# Altium footprint library Power Management DC-DC Conversion.PcbLib: 98 footprints (part 1 of 7)
Each footprint in its own frame and in the unit in brackets; x right, y up, seen from the top. Pads: shape width x height; smd on the part's side, far side on the other; paste and mask are expansions set on the pad; w line width, h text height; cw(c..) or ccw(c..) is an arc to the next point about the centre after c.
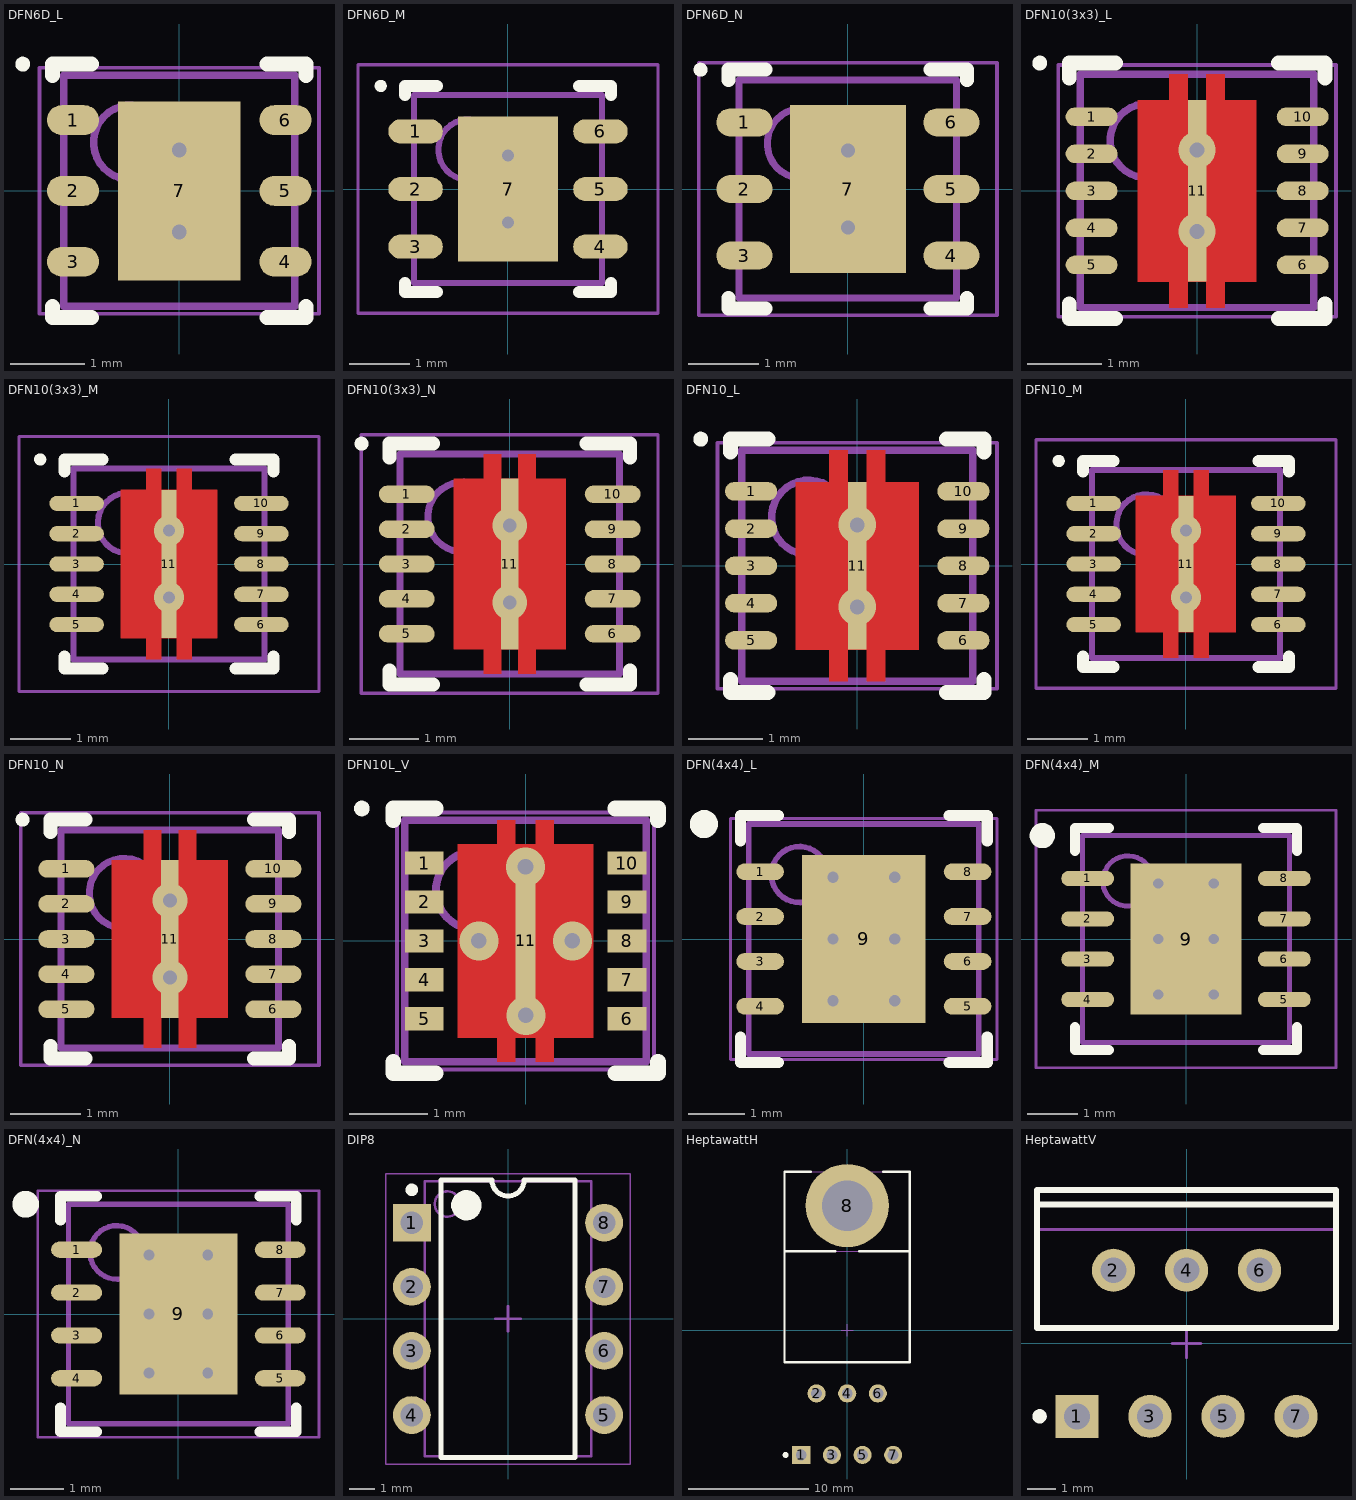
[diagram p0: the footprints below, top view; thin cyan lines are the x and y axes]

## DFN6D_L [mm] "SON, 6-Leads, Body 3x3mm, Pitch 0.95mm, Thermal Pad 2.4x1.65mm, IPC High Density"
height 0.95
pads (7):
  oval 0.7x0.4 smd: 1(-1.425,0.95) 2(-1.425,0) 3(-1.425,-0.95) 4(1.425,-0.95) 5(1.425,0) 6(1.425,0.95)
  rect 1.65x2.4 smd: 7(0,0)
via 0,-0.55 diameter 0.5 hole 0.2
via 0,0.55 diameter 0.5 hole 0.2
Top Overlay:
  circle w0.1: c-2.1,1.7 r0.05
  lines w0.2: -1.7,-1.55 -1.7,-1.7 -1.175,-1.7 ; -1.7,1.55 -1.7,1.7 -1.175,1.7 ; 1.175,-1.7 1.7,-1.7 1.7,-1.55 ; 1.175,1.7 1.7,1.7 1.7,1.55
Mechanical 13:
  circle w0.1: c-0.65,0.65 r0.5
  lines w0.1: -1.55,-1.55 1.55,-1.55 1.55,1.55 -1.55,1.55 -1.55,-1.55
Mechanical 15:
  lines w0.05: -1.875,-1.65 1.875,-1.65 1.875,1.65 -1.875,1.65 -1.875,-1.65
  lines w0.1: -0.5,0 0.5,0 ; 0,-0.5 0,0.5
3D body: height 0.95, standoff 0, extent -1.55,-1.55 1.55,1.55

## DFN6D_M [mm] "SON, 6-Leads, Body 3x3mm, Pitch 0.95mm, Thermal Pad 2.4x1.65mm, IPC Low Density"
height 0.95
pads (7):
  oval 0.9x0.4 smd: 1(-1.525,0.95) 2(-1.525,0) 3(-1.525,-0.95) 4(1.525,-0.95) 5(1.525,0) 6(1.525,0.95)
  rect 1.65x2.4 smd: 7(0,0)
via 0,0.55 diameter 0.5 hole 0.2
via 0,-0.55 diameter 0.5 hole 0.2
Top Overlay:
  circle w0.1: c-2.1,1.7 r0.05
  lines w0.2: -1.7,-1.55 -1.7,-1.7 -1.175,-1.7 ; -1.7,1.55 -1.7,1.7 -1.175,1.7 ; 1.175,-1.7 1.7,-1.7 1.7,-1.55 ; 1.175,1.7 1.7,1.7 1.7,1.55
Mechanical 13:
  circle w0.1: c-0.65,0.65 r0.5
  lines w0.1: -1.55,-1.55 -1.55,1.55 1.55,1.55 1.55,-1.55 -1.55,-1.55
Mechanical 15:
  lines w0.05: -2.475,-2.05 -2.475,2.05 2.475,2.05 2.475,-2.05 -2.475,-2.05
  lines w0.1: -0.5,0 0.5,0 ; 0,-0.5 0,0.5
3D body: height 0.95, standoff 0, extent -1.55,-1.55 1.55,1.55

## DFN6D_N [mm] "SON, 6-Leads, Body 3x3mm, Pitch 0.95mm, Thermal Pad 2.4x1.65mm, IPC Medium Density"
height 0.95
pads (7):
  oval 0.8x0.4 smd: 1(-1.475,0.95) 2(-1.475,0) 3(-1.475,-0.95) 4(1.475,-0.95) 5(1.475,0) 6(1.475,0.95)
  rect 1.65x2.4 smd: 7(0,0)
via 0,0.55 diameter 0.5 hole 0.2
via 0,-0.55 diameter 0.5 hole 0.2
Top Overlay:
  circle w0.1: c-2.1,1.7 r0.05
  lines w0.2: -1.7,-1.55 -1.7,-1.7 -1.175,-1.7 ; -1.7,1.55 -1.7,1.7 -1.175,1.7 ; 1.175,-1.7 1.7,-1.7 1.7,-1.55 ; 1.175,1.7 1.7,1.7 1.7,1.55
Mechanical 13:
  circle w0.1: c-0.65,0.65 r0.5
  lines w0.1: -1.55,-1.55 -1.55,1.55 1.55,1.55 1.55,-1.55 -1.55,-1.55
Mechanical 15:
  lines w0.05: -2.125,-1.8 -2.125,1.8 2.125,1.8 2.125,-1.8 -2.125,-1.8
  lines w0.1: -0.5,0 0.5,0 ; 0,-0.5 0,0.5
3D body: height 0.95, standoff 0, extent -1.55,-1.55 1.55,1.55

## DFN10(3x3)_L [mm] "SON, 10-Leads, Body 3x3mm, Pitch 0.5mm, Thermal Pad 2.45x1.6mm, IPC High Density"
height 1
pads (11):
  oval 0.7x0.25 smd: 1(-1.425,1) 2(-1.425,0.5) 3(-1.425,0) 4(-1.425,-0.5) 5(-1.425,-1) 6(1.425,-1) 7(1.425,-0.5) 8(1.425,0) 9(1.425,0.5) 10(1.425,1)
  rect 0.25x2.45 smd paste+0 mask+0: 11(0,0)
via 0,0.55 diameter 0.5 hole 0.2
via 0,-0.55 diameter 0.5 hole 0.2
Top Layer:
  region: -0.8,-1.225 -0.375,-1.225 -0.375,-1.575 -0.125,-1.575 -0.125,-1.225 0.125,-1.225 0.125,-1.575 0.375,-1.575 0.375,-1.225 0.8,-1.225 0.8,1.225 0.375,1.225 0.375,1.575 0.125,1.575 0.125,1.225 -0.125,1.225 -0.125,1.575 -0.375,1.575 -0.375,1.225 -0.8,1.225
Top Overlay:
  circle w0.1: c-2.125,1.725 r0.05
  lines w0.2: -1.725,-1.525 -1.725,-1.725 -1.1,-1.725 ; -1.725,1.525 -1.725,1.725 -1.1,1.725 ; 1.1,-1.725 1.725,-1.725 1.725,-1.525 ; 1.1,1.725 1.725,1.725 1.725,1.525
Mechanical 13:
  circle w0.1: c-0.675,0.675 r0.5
  lines w0.1: -1.575,-1.575 -1.575,1.575 1.575,1.575 1.575,-1.575 -1.575,-1.575
Mechanical 15:
  lines w0.05: -1.875,-1.7 -1.875,1.7 1.875,1.7 1.875,-1.7 -1.875,-1.7
  lines w0.1: -0.5,0 0.5,0 ; 0,-0.5 0,0.5
3D body: height 1, standoff 0, extent -1.575,-1.575 1.575,1.575

## DFN10(3x3)_M [mm] "SON, 10-Leads, Body 3x3mm, Pitch 0.5mm, Thermal Pad 2.45x1.6mm, IPC Low Density"
height 1
pads (11):
  oval 0.9x0.25 smd: 1(-1.525,1) 2(-1.525,0.5) 3(-1.525,0) 4(-1.525,-0.5) 5(-1.525,-1) 6(1.525,-1) 7(1.525,-0.5) 8(1.525,0) 9(1.525,0.5) 10(1.525,1)
  rect 0.25x2.45 smd paste+0 mask+0: 11(0,0)
via 0,0.55 diameter 0.5 hole 0.2
via 0,-0.55 diameter 0.5 hole 0.2
Top Layer:
  region: -0.8,-1.225 -0.375,-1.225 -0.375,-1.575 -0.125,-1.575 -0.125,-1.225 0.125,-1.225 0.125,-1.575 0.375,-1.575 0.375,-1.225 0.8,-1.225 0.8,1.225 0.375,1.225 0.375,1.575 0.125,1.575 0.125,1.225 -0.125,1.225 -0.125,1.575 -0.375,1.575 -0.375,1.225 -0.8,1.225
Top Overlay:
  circle w0.1: c-2.125,1.725 r0.05
  lines w0.2: -1.725,-1.525 -1.725,-1.725 -1.1,-1.725 ; -1.725,1.525 -1.725,1.725 -1.1,1.725 ; 1.1,-1.725 1.725,-1.725 1.725,-1.525 ; 1.1,1.725 1.725,1.725 1.725,1.525
Mechanical 13:
  circle w0.1: c-0.675,0.675 r0.5
  lines w0.1: -1.575,-1.575 -1.575,1.575 1.575,1.575 1.575,-1.575 -1.575,-1.575
Mechanical 15:
  lines w0.05: -2.475,-2.1 -2.475,2.1 2.475,2.1 2.475,-2.1 -2.475,-2.1
  lines w0.1: -0.5,0 0.5,0 ; 0,-0.5 0,0.5
3D body: height 1, standoff 0, extent -1.575,-1.575 1.575,1.575

## DFN10(3x3)_N [mm] "SON, 10-Leads, Body 3x3mm, Pitch 0.5mm, Thermal Pad 2.45x1.6mm, IPC Medium Density"
height 1
pads (11):
  oval 0.8x0.25 smd: 1(-1.475,1) 2(-1.475,0.5) 3(-1.475,0) 4(-1.475,-0.5) 5(-1.475,-1) 6(1.475,-1) 7(1.475,-0.5) 8(1.475,0) 9(1.475,0.5) 10(1.475,1)
  rect 0.25x2.45 smd paste+0 mask+0: 11(0,0)
via 0,0.55 diameter 0.5 hole 0.2
via 0,-0.55 diameter 0.5 hole 0.2
Top Layer:
  region: -0.8,-1.225 -0.375,-1.225 -0.375,-1.575 -0.125,-1.575 -0.125,-1.225 0.125,-1.225 0.125,-1.575 0.375,-1.575 0.375,-1.225 0.8,-1.225 0.8,1.225 0.375,1.225 0.375,1.575 0.125,1.575 0.125,1.225 -0.125,1.225 -0.125,1.575 -0.375,1.575 -0.375,1.225 -0.8,1.225
Top Overlay:
  circle w0.1: c-2.125,1.725 r0.05
  lines w0.2: -1.725,-1.525 -1.725,-1.725 -1.1,-1.725 ; -1.725,1.525 -1.725,1.725 -1.1,1.725 ; 1.1,-1.725 1.725,-1.725 1.725,-1.525 ; 1.1,1.725 1.725,1.725 1.725,1.525
Mechanical 13:
  circle w0.1: c-0.675,0.675 r0.5
  lines w0.1: -1.575,-1.575 -1.575,1.575 1.575,1.575 1.575,-1.575 -1.575,-1.575
Mechanical 15:
  lines w0.05: -2.125,-1.85 -2.125,1.85 2.125,1.85 2.125,-1.85 -2.125,-1.85
  lines w0.1: -0.5,0 0.5,0 ; 0,-0.5 0,0.5
3D body: height 1, standoff 0, extent -1.575,-1.575 1.575,1.575

## DFN10_L [mm] "SON, 10-Leads, Body 3x3mm, Pitch 0.5mm, Thermal Pad 2.25x1.6mm, IPC High Density"
height 1
pads (11):
  oval 0.7x0.25 smd: 1(-1.425,1) 2(-1.425,0.5) 3(-1.425,0) 4(-1.425,-0.5) 5(-1.425,-1) 6(1.425,-1) 7(1.425,-0.5) 8(1.425,0) 9(1.425,0.5) 10(1.425,1)
  rect 0.25x2.25 smd paste+0 mask+0: 11(0,0)
via 0,0.55 diameter 0.5 hole 0.2
via 0,-0.55 diameter 0.5 hole 0.2
Top Layer:
  region: -0.375,-1.55 -0.375,-1.125 -0.825,-1.125 -0.825,1.125 -0.375,1.125 -0.375,1.55 -0.125,1.55 -0.125,1.125 0.125,1.125 0.125,1.55 0.375,1.55 0.375,1.125 0.825,1.125 0.825,-1.125 0.375,-1.125 0.375,-1.55 0.125,-1.55 0.125,-1.125 -0.125,-1.125 -0.125,-1.55
Top Overlay:
  circle w0.1: c-2.1,1.7 r0.05
  lines w0.2: -1.7,-1.525 -1.7,-1.7 -1.2,-1.7 ; -1.7,1.525 -1.7,1.7 -1.2,1.7 ; 1.2,-1.7 1.7,-1.7 1.7,-1.525 ; 1.2,1.7 1.7,1.7 1.7,1.525
Mechanical 13:
  circle w0.1: c-0.65,0.65 r0.5
  lines w0.1: -1.55,-1.55 -1.55,1.55 1.55,1.55 1.55,-1.55 -1.55,-1.55
Mechanical 15:
  lines w0.05: -1.875,-1.65 -1.875,1.65 1.875,1.65 1.875,-1.65 -1.875,-1.65
  lines w0.1: -0.5,0 0.5,0 ; 0,-0.5 0,0.5
3D body: height 1, standoff 0, extent -1.55,-1.55 1.55,1.55

## DFN10_M [mm] "SON, 10-Leads, Body 3x3mm, Pitch 0.5mm, Thermal Pad 2.25x1.6mm, IPC Low Density"
height 1
pads (11):
  oval 0.9x0.25 smd: 1(-1.525,1) 2(-1.525,0.5) 3(-1.525,0) 4(-1.525,-0.5) 5(-1.525,-1) 6(1.525,-1) 7(1.525,-0.5) 8(1.525,0) 9(1.525,0.5) 10(1.525,1)
  rect 0.25x2.25 smd paste+0 mask+0: 11(0,0)
via 0,0.55 diameter 0.5 hole 0.2
via 0,-0.55 diameter 0.5 hole 0.2
Top Layer:
  region: -0.375,-1.55 -0.375,-1.125 -0.825,-1.125 -0.825,1.125 -0.375,1.125 -0.375,1.55 -0.125,1.55 -0.125,1.125 0.125,1.125 0.125,1.55 0.375,1.55 0.375,1.125 0.825,1.125 0.825,-1.125 0.375,-1.125 0.375,-1.55 0.125,-1.55 0.125,-1.125 -0.125,-1.125 -0.125,-1.55
Top Overlay:
  circle w0.1: c-2.1,1.7 r0.05
  lines w0.2: -1.7,-1.525 -1.7,-1.7 -1.2,-1.7 ; -1.7,1.525 -1.7,1.7 -1.2,1.7 ; 1.2,-1.7 1.7,-1.7 1.7,-1.525 ; 1.2,1.7 1.7,1.7 1.7,1.525
Mechanical 13:
  circle w0.1: c-0.65,0.65 r0.5
  lines w0.1: -1.55,-1.55 -1.55,1.55 1.55,1.55 1.55,-1.55 -1.55,-1.55
Mechanical 15:
  lines w0.05: -2.475,-2.05 -2.475,2.05 2.475,2.05 2.475,-2.05 -2.475,-2.05
  lines w0.1: -0.5,0 0.5,0 ; 0,-0.5 0,0.5
3D body: height 1, standoff 0, extent -1.55,-1.55 1.55,1.55

## DFN10_N [mm] "SON, 10-Leads, Body 3x3mm, Pitch 0.5mm, Thermal Pad 2.25x1.6mm, IPC Medium Density"
height 1
pads (11):
  oval 0.8x0.25 smd: 1(-1.475,1) 2(-1.475,0.5) 3(-1.475,0) 4(-1.475,-0.5) 5(-1.475,-1) 6(1.475,-1) 7(1.475,-0.5) 8(1.475,0) 9(1.475,0.5) 10(1.475,1)
  rect 0.25x2.25 smd paste+0 mask+0: 11(0,0)
via 0,-0.55 diameter 0.5 hole 0.2
via 0,0.55 diameter 0.5 hole 0.2
Top Layer:
  region: -0.375,-1.55 -0.375,-1.125 -0.825,-1.125 -0.825,1.125 -0.375,1.125 -0.375,1.55 -0.125,1.55 -0.125,1.125 0.125,1.125 0.125,1.55 0.375,1.55 0.375,1.125 0.825,1.125 0.825,-1.125 0.375,-1.125 0.375,-1.55 0.125,-1.55 0.125,-1.125 -0.125,-1.125 -0.125,-1.55
Top Overlay:
  circle w0.1: c-2.1,1.7 r0.05
  lines w0.2: -1.7,-1.525 -1.7,-1.7 -1.2,-1.7 ; -1.7,1.525 -1.7,1.7 -1.2,1.7 ; 1.2,-1.7 1.7,-1.7 1.7,-1.525 ; 1.2,1.7 1.7,1.7 1.7,1.525
Mechanical 13:
  circle w0.1: c-0.65,0.65 r0.5
  lines w0.1: -1.55,-1.55 1.55,-1.55 1.55,1.55 -1.55,1.55 -1.55,-1.55
Mechanical 15:
  lines w0.05: -2.125,-1.8 2.125,-1.8 2.125,1.8 -2.125,1.8 -2.125,-1.8
  lines w0.1: -0.5,0 0.5,0 ; 0,-0.5 0,0.5
3D body: height 1, standoff 0, extent -1.55,-1.55 1.55,1.55

## DFN10L_V [mm] "SON, 10-Leads, Body 3x3 mm, Pitch 0.5mm, Thermal Pad 2.48x1.74mm, ST Recommended"
height 0.8
pads (11):
  rect 0.5x0.3 smd: 1(-1.3,1) 2(-1.3,0.5) 3(-1.3,0) 4(-1.3,-0.5) 5(-1.3,-1) 6(1.3,-1) 7(1.3,-0.5) 8(1.3,0) 9(1.3,0.5) 10(1.3,1)
  rect 0.26x1.6 smd paste+0 mask+0: 11(0,0)
via 0.005,-0.954 diameter 0.5 hole 0.2
via 0,0.95 diameter 0.5 hole 0.2
via 0.6,0 diameter 0.5 hole 0.2
via -0.6,0 diameter 0.5 hole 0.2
Top Layer:
  region: -0.36,-1.55 -0.36,-1.24 -0.87,-1.24 -0.87,1.24 -0.36,1.24 -0.36,1.55 -0.13,1.55 -0.13,1.24 0.13,1.24 0.13,1.55 0.36,1.55 0.36,1.24 0.87,1.24 0.87,-1.24 0.36,-1.24 0.36,-1.55 0.13,-1.55 0.13,-1.24 -0.13,-1.24 -0.13,-1.55
Top Overlay:
  circle w0.1: c-2.1,1.7 r0.05
  lines w0.2: -1.7,-1.55 -1.7,-1.7 -1.15,-1.7 ; -1.7,1.55 -1.7,1.7 -1.15,1.7 ; 1.15,-1.7 1.7,-1.7 1.7,-1.55 ; 1.15,1.7 1.7,1.7 1.7,1.55
Mechanical 13:
  circle w0.1: c-0.65,0.65 r0.5
  lines w0.1: -1.55,-1.55 -1.55,1.55 1.55,1.55 1.55,-1.55 -1.55,-1.55
Mechanical 15:
  lines w0.05: -1.65,-1.65 -1.65,1.65 1.65,1.65 1.65,-1.65 -1.65,-1.65
  lines w0.1: -0.5,0 0.5,0 ; 0,-0.5 0,0.5
3D body: height 0.8, standoff 0, extent -1.55,-1.55 1.55,1.55

## DFN(4x4)_L [mm] "SON, 8-Leads, Body 4x4mm, Pitch 0.8mm, Thermal Pad 3x2.2mm, IPC High Density"
height 1
pads (9):
  oval 0.85x0.3 smd: 1(-1.85,1.2) 2(-1.85,0.4) 3(-1.85,-0.4) 4(-1.85,-1.2) 5(1.85,-1.2) 6(1.85,-0.4) 7(1.85,0.4) 8(1.85,1.2)
  rect 2.2x3 smd: 9(0,0)
via -0.55,1.1 diameter 0.5 hole 0.2
via 0.55,1.1 diameter 0.5 hole 0.2
via -0.55,0 diameter 0.5 hole 0.2
via 0.55,0 diameter 0.5 hole 0.2
via -0.55,-1.1 diameter 0.5 hole 0.2
via 0.55,-1.1 diameter 0.5 hole 0.2
Top Overlay:
  circle w0.25: c-2.85,2.05 r0.125
  lines w0.2: -2.2,-1.75 -2.2,-2.2 -1.525,-2.2 ; -2.2,1.75 -2.2,2.2 -1.525,2.2 ; 1.525,-2.2 2.2,-2.2 2.2,-1.75 ; 1.525,2.2 2.2,2.2 2.2,1.75
Mechanical 13:
  circle w0.1: c-1.15,1.15 r0.5
  lines w0.1: -2.05,-2.05 -2.05,2.05 2.05,2.05 2.05,-2.05 -2.05,-2.05
Mechanical 15:
  lines w0.05: -2.375,-2.15 -2.375,2.15 2.375,2.15 2.375,-2.15 -2.375,-2.15
  lines w0.1: -0.5,0 0.5,0 ; 0,-0.5 0,0.5
3D body: height 1, standoff 0, extent -2.05,-2.05 2.05,2.05

## DFN(4x4)_M [mm] "SON, 8-Leads, Body 4x4mm, Pitch 0.8mm, Thermal Pad 3x2.2mm, IPC Low Density"
height 1
pads (9):
  oval 1.05x0.3 smd: 1(-1.95,1.2) 2(-1.95,0.4) 3(-1.95,-0.4) 4(-1.95,-1.2) 5(1.95,-1.2) 6(1.95,-0.4) 7(1.95,0.4) 8(1.95,1.2)
  rect 2.2x3 smd: 9(0,0)
via 0.55,-1.1 diameter 0.5 hole 0.2
via -0.55,-1.1 diameter 0.5 hole 0.2
via 0.55,0 diameter 0.5 hole 0.2
via -0.55,0 diameter 0.5 hole 0.2
via 0.55,1.1 diameter 0.5 hole 0.2
via -0.55,1.1 diameter 0.5 hole 0.2
Top Overlay:
  circle w0.25: c-2.85,2.05 r0.125
  lines w0.2: -2.2,-1.75 -2.2,-2.2 -1.525,-2.2 ; -2.2,1.75 -2.2,2.2 -1.525,2.2 ; 1.525,-2.2 2.2,-2.2 2.2,-1.75 ; 1.525,2.2 2.2,2.2 2.2,1.75
Mechanical 13:
  circle w0.1: c-1.15,1.15 r0.5
  lines w0.1: -2.05,-2.05 2.05,-2.05 2.05,2.05 -2.05,2.05 -2.05,-2.05
Mechanical 15:
  lines w0.05: -2.975,-2.55 2.975,-2.55 2.975,2.55 -2.975,2.55 -2.975,-2.55
  lines w0.1: -0.5,0 0.5,0 ; 0,-0.5 0,0.5
3D body: height 1, standoff 0, extent -2.05,-2.05 2.05,2.05

## DFN(4x4)_N [mm] "SON, 8-Leads, Body 4x4mm, Pitch 0.8mm, Thermal Pad 3x2.2mm, IPC Medium Density"
height 1
pads (9):
  oval 0.95x0.3 smd: 1(-1.9,1.2) 2(-1.9,0.4) 3(-1.9,-0.4) 4(-1.9,-1.2) 5(1.9,-1.2) 6(1.9,-0.4) 7(1.9,0.4) 8(1.9,1.2)
  rect 2.2x3 smd: 9(0,0)
via 0.55,-1.1 diameter 0.5 hole 0.2
via -0.55,-1.1 diameter 0.5 hole 0.2
via 0.55,0 diameter 0.5 hole 0.2
via -0.55,0 diameter 0.5 hole 0.2
via 0.55,1.1 diameter 0.5 hole 0.2
via -0.55,1.1 diameter 0.5 hole 0.2
Top Overlay:
  circle w0.25: c-2.85,2.05 r0.125
  lines w0.2: -2.2,-1.75 -2.2,-2.2 -1.525,-2.2 ; -2.2,1.75 -2.2,2.2 -1.525,2.2 ; 1.525,-2.2 2.2,-2.2 2.2,-1.75 ; 1.525,2.2 2.2,2.2 2.2,1.75
Mechanical 13:
  circle w0.1: c-1.15,1.15 r0.5
  lines w0.1: -2.05,-2.05 2.05,-2.05 2.05,2.05 -2.05,2.05 -2.05,-2.05
Mechanical 15:
  lines w0.05: -2.625,-2.3 2.625,-2.3 2.625,2.3 -2.625,2.3 -2.625,-2.3
  lines w0.1: -0.5,0 0.5,0 ; 0,-0.5 0,0.5
3D body: height 1, standoff 0, extent -2.05,-2.05 2.05,2.05

## DIP8 [mm] "DIP, 8-Leads, Row Spacing 7.62mm, Pitch 2.54mm, Body 9.9x6.4mm"
height 5.08
pads (8):
  rect 1.5x1.5 hole 0.9: 1(-3.81,3.81)
  round 1.5 hole 0.9: 2(-3.81,1.27) 3(-3.81,-1.27) 4(-3.81,-3.81) 5(3.81,-3.81) 6(3.81,-1.27) 7(3.81,1.27) 8(3.81,3.81)
Top Overlay:
  circle w0.6: c-1.65,4.5 r0.3
  circle w0.25: c-3.81,5.11 r0.125
  lines w0.2: -2.65,-5.5 2.65,-5.5 2.65,5.5 0.635,5.5 cw(c0,5.5) -0.635,5.5 -2.65,5.5 -2.65,-5.5
Mechanical 13:
  circle w0.1: c-2.4,4.55 r0.5
  lines w0.1: -3.3,-5.45 3.3,-5.45 3.3,5.45 -3.3,5.45 -3.3,-5.45
Mechanical 15:
  lines w0.05: -4.85,-5.75 4.85,-5.75 4.85,5.75 -4.85,5.75 -4.85,-5.75
  lines w0.1: -0.5,0 0.5,0 ; 0,-0.5 0,0.5
3D body: height 5.08, standoff 0.51, extent -3.3,-5.45 3.3,5.45

## HeptawattH [mm] "TO, Thru-Hole, Horizontal, Heatsink Mounted; 7 Bent Staggered Lead; Body 10.2x9.2x4.6mm, Pitch 1.27 mm"
height 4.8
pads (8):
  rect 1.5x1.5 hole 0.9: 1(-3.81,-10.34)
  round 1.5 hole 0.9: 2(-2.54,-5.24) 3(-1.27,-10.34) 4(0,-5.24) 5(1.27,-10.34) 6(2.54,-5.24) 7(3.81,-10.34)
  round 6.9 hole 4.2: 8(0,10.34)
Top Overlay:
  circle w0.25: c-5.11,-10.34 r0.125
  lines w0.2: -5.2,6.54 -1,6.54 ; -3,13.14 -5.2,13.14 -5.2,-2.66 5.2,-2.66 5.2,13.14 3,13.14 ; 1,6.54 5.2,6.54
Mechanical 13:
  circle w0.1: c0.003,10.314 r1.925
  lines w0.1: -5.2,6.54 5.2,6.54 ; -5.2,-2.66 -5.2,13.14 5.2,13.14 5.2,-2.66 -5.2,-2.66
Mechanical 15:
  lines w0.1: -0.5,0 0.5,0 ; 0,-0.5 0,0.5
3D body: height 1.37, standoff 0, extent -5.199,6.541 5.199,13.139
3D body: height 1.37, standoff 0, extent -1.921,8.39 1.927,12.238
3D body: height 4.8, standoff 0, extent -5.199,-2.659 5.199,6.539

## HeptawattV [mm] "TO, Thru-Hole, Vertical, Heatsink Mounted; 7 Bent Staggered Leads; Body 10.2x9.2x4.6mm, Pitch 1.27 mm"
height 20.1
pads (7):
  rect 1.5x1.5 hole 0.9: 1(-3.81,-2.54)
  round 1.5 hole 0.9: 2(-2.54,2.54) 3(-1.27,-2.54) 4(0,2.54) 5(1.27,-2.54) 6(2.54,2.54) 7(3.81,-2.54)
Top Overlay:
  circle w0.25: c-5.11,-2.54 r0.125
  lines w0.2: -5.2,4.83 5.2,4.83 ; -5.2,0.53 -5.2,5.33 5.2,5.33 5.2,0.53 -5.2,0.53
Mechanical 13:
  lines w0.1: -5.2,3.96 5.2,3.96 ; -5.2,0.53 -5.2,5.33 5.2,5.33 5.2,0.53 -5.2,0.53
Mechanical 15:
  lines w0.1: -0.5,0 0.5,0 ; 0,-0.5 0,0.5
3D body: height 15.1, standoff 5.3, extent -5.25,0.48 5.25,5.38
3D body: height 20.1, standoff 15.1, extent -5.199,3.961 5.199,5.329